# EAGLE library part AP3598A (library ICs)
Buck Regulator Positive Output Step-Down PSI DC-DC Controller IC U-QFN4040-24
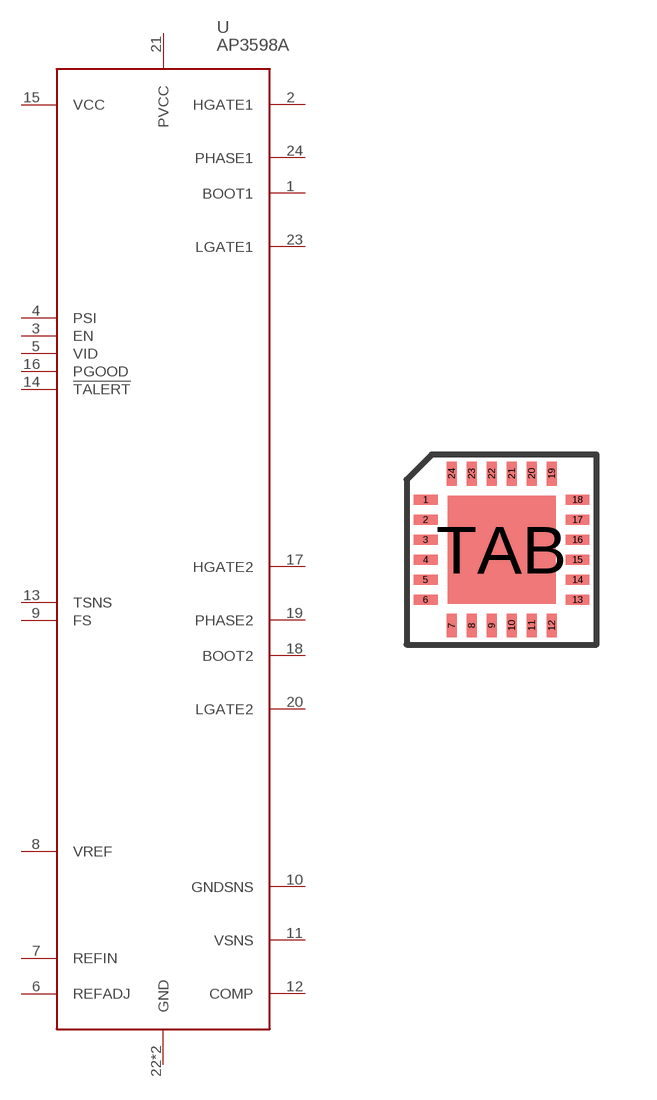
[diagram p175: symbol with the pads of QFN24; footprint QFN24]

Designator prefix U

## AP3598A (DIGIKEY: AP3598AFNTR-G1DICT-ND; HEIGHT: 0.7; PRICE_PER: 1.10; VALUE: AP3598A)  [QFN24]
1  BOOT1
2  HGATE1
3  EN
4  PSI
5  VID
6  REFADJ
7  REFIN
8  VREF
9  FS
10  GNDSNS
11  VSNS
12  COMP
13  TSNS
14  !TALERT
15  VCC
16  PGOOD
17  HGATE2
18  BOOT2
19  PHASE2
20  LGATE2
21  PVCC
22  GND
23  LGATE1
24  PHASE1
TAB  GND

## Footprint QFN24 (pad centres in mm)
smd 0.6 x 0.25: 1 -1.9,1.25; 2 -1.9,0.75; 3 -1.9,0.25; 4 -1.9,-0.25; 5 -1.9,-0.75; 6 -1.9,-1.25; 13 1.9,-1.25; 14 1.9,-0.75; 15 1.9,-0.25; 16 1.9,0.25; 17 1.9,0.75; 18 1.9,1.25
smd 0.25 x 0.6: 7 -1.25,-1.9; 8 -0.75,-1.9; 9 -0.25,-1.9; 10 0.25,-1.9; 11 0.75,-1.9; 12 1.25,-1.9; 19 1.25,1.9; 20 0.75,1.9; 21 0.25,1.9; 22 -0.25,1.9; 23 -0.75,1.9; 24 -1.25,1.9
smd 2.7 x 2.7: TAB 0,0